# EAGLE library part SI4012 (library radio-tracker)
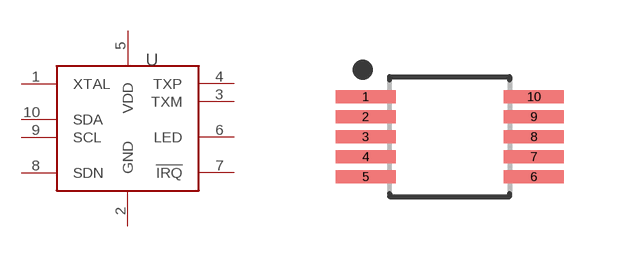
[diagram p0: symbol with the pads of SI4012; footprint SI4012]

Designator prefix U

## SI4012  [SI4012]
1  XTAL
2  GND  pas
3  TXM
4  TXP
5  VDD  pwr
6  LED
7  !IRQ
8  SDN
9  SCL
10  SDA

## Footprint SI4012 (pad centres in mm)
10-SOP, 0.50 mm pitch, 4.90 mm span, 3.00 X 3.00 X 1.10 mm body 10-pin SOP package with 0.50 mm pitch, 4.90 mm span with body size 3.00 X 3.00 X 1.10 mm
smd 1.503 x 0.325: 1 -2.104,1; 2 -2.104,0.5; 3 -2.104,0; 4 -2.104,-0.5; 5 -2.104,-1; 6 2.104,-1; 7 2.104,-0.5; 8 2.104,0; 9 2.104,0.5; 10 2.104,1